# Altium footprint library PAL1.PcbLib: 132 footprints (part 7 of 9)
Each footprint in its own frame and in the unit in brackets; x right, y up, seen from the top. Pads: shape width x height; smd on the part's side, far side on the other; paste and mask are expansions set on the pad; w line width, h text height; cw(c..) or ccw(c..) is an arc to the next point about the centre after c.
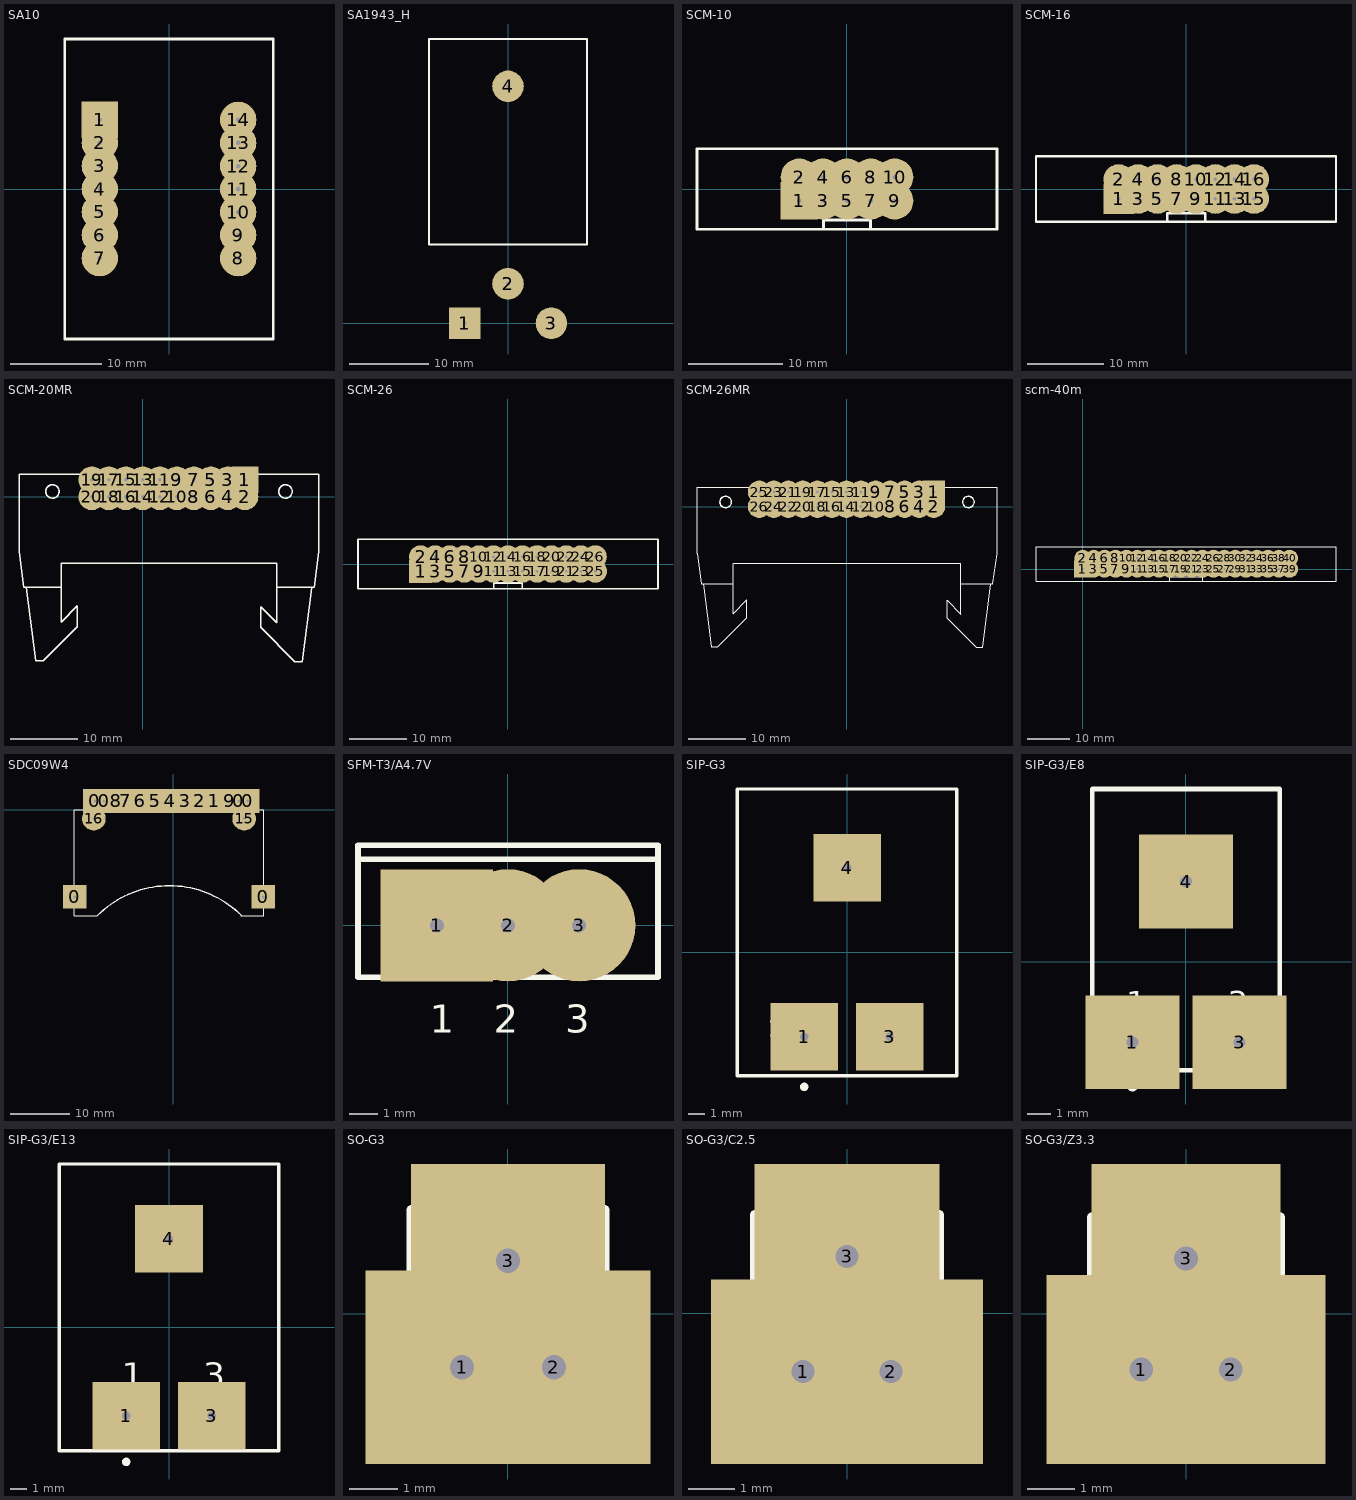
[diagram p6: the footprints below, top view; thin cyan lines are the x and y axes]

## SA10 [mm]
pads (14):
  rect 4x4 hole 0.5: 1(-7.62,7.62)
  round 4 hole 0.5: 2(-7.625,5.075) 3(-7.625,2.55) 4(-7.625,0) 5(-7.625,-2.525) 6(-7.625,-5.075) 7(-7.625,-7.625) 8(7.625,-7.625) 9(7.625,-5.075) 10(7.625,-2.55) 11(7.625,0) 12(7.625,2.525) 13(7.625,5.075) 14(7.625,7.625)
Top Overlay:
  lines w0.3: -11.5,-16.525 0,-16.525 11.5,-16.525 11.5,0 11.5,16.525 0,16.525 -11.5,16.525 -11.5,0 -11.5,-16.525

## SA1943_H [mm]
pads (4):
  rect 4x4 hole 0.5: 1(-5.5,0)
  round 4 hole 0.5: 2(0,5) 3(5.5,0) 4(0,30)
Top Overlay:
  lines w0.254: -10,10 0,10 10,10 10,36 -10,36 -10,10

## SCM-10 [mm]
pads (10):
  rect 4x4 hole 0.5: 1(-5.074,-1.261)
  round 4 hole 0.5: 2(-5.074,1.279) 3(-2.534,-1.261) 4(-2.534,1.279) 5(0.006,-1.261) 6(0.006,1.279) 7(2.546,-1.261) 8(2.546,1.279) 9(5.086,-1.261) 10(5.086,1.279)
Top Overlay:
  lines w0.3: -2.494,-4.291 -2.494,-3.291 2.506,-3.291 2.506,-4.291 ; -15.994,-4.291 -15.994,0.009 -15.994,4.309 16.006,4.309 16.006,-4.291 -15.994,-4.291

## SCM-16 [mm]
pads (16):
  rect 4x4 hole 0.5: 1(-8.889,-1.266)
  round 4 hole 0.5: 2(-8.889,1.274) 3(-6.349,-1.266) 4(-6.349,1.274) 5(-3.809,-1.266) 6(-3.809,1.274) 7(-1.269,-1.266) 8(-1.269,1.274) 9(1.271,-1.266) 10(1.271,1.274) 11(3.811,-1.266) 12(3.811,1.274) 13(6.351,-1.266) 14(6.351,1.274) 15(8.891,-1.266) 16(8.891,1.274)
Top Overlay:
  lines w0.3: -2.499,-4.169 -2.499,-3.169 2.501,-3.169 2.501,-4.169 ; -19.769,-4.296 19.686,-4.314 19.686,4.322 -19.769,4.304 -19.769,0.004 -19.769,-4.296

## SCM-20MR [mm]
pads (20):
  rect 4x4 hole 0.5: 1(15.228,2.538)
  round 4 hole 0.5: 2(15.228,-0.002) 3(12.688,2.538) 4(12.688,-0.002) 5(10.148,2.538) 6(10.148,-0.002) 7(7.608,2.538) 8(7.608,-0.002) 9(5.068,2.538) 10(5.068,-0.002) 11(2.528,2.538) 12(2.528,-0.002) 13(-0.012,2.538) 14(-0.012,-0.002) 15(-2.552,2.538) 16(-2.552,-0.002) 17(-5.092,2.538) 18(-5.092,-0.002) 19(-7.632,2.538) 20(-7.632,-0.002)
Top Overlay:
  circle w0.254: c-13.512,0.798 r1
  circle w0.254: c21.288,0.798 r1
  lines w0.2: -17.412,-13.502 -16.012,-24.502 -14.912,-24.502 -9.812,-19.402 -9.812,-16.302 -12.212,-18.702 -12.212,-13.502 -17.812,-13.502 -18.512,-8.202 -18.512,3.398 -0.012,3.398 26.288,3.398 26.288,-8.202 25.588,-13.502 19.988,-13.502 ; -12.212,-13.402 -12.212,-10.002 -12.112,-9.902 2.188,-9.902 19.988,-9.902 19.988,-13.602 19.988,-18.802 17.588,-16.402 17.588,-19.502 22.688,-24.602 23.788,-24.602 25.188,-13.602

## SCM-26 [mm]
pads (26):
  rect 4x4 hole 0.5: 1(-15.207,-1.212)
  round 4 hole 0.5: 2(-15.207,1.328) 3(-12.667,-1.212) 4(-12.667,1.328) 5(-10.127,-1.212) 6(-10.127,1.328) 7(-7.587,-1.212) 8(-7.587,1.328) 9(-5.047,-1.212) 10(-5.047,1.328) 11(-2.507,-1.212) 12(-2.507,1.328) 13(0.033,-1.212) 14(0.033,1.328) 15(2.573,-1.212) 16(2.573,1.328) 17(5.113,-1.212) 18(5.108,1.333) 19(7.653,-1.212) 20(7.653,1.328) 21(10.193,-1.212) 22(10.193,1.328) 23(12.733,-1.212) 24(12.733,1.328) 25(15.273,-1.212) 26(15.258,1.333)
Top Overlay:
  lines w0.3: -2.467,-4.242 -2.467,-3.242 2.533,-3.242 2.533,-4.242 ; -26.127,-4.242 -26.127,0.058 -26.127,4.358 26.193,4.358 26.193,-4.242 -26.127,-4.242

## SCM-26MR [mm]
pads (26):
  rect 4x4 hole 0.5: 1(15.228,2.538)
  round 4 hole 0.5: 2(15.228,-0.002) 3(12.688,2.538) 4(12.688,-0.002) 5(10.148,2.538) 6(10.148,-0.002) 7(7.608,2.538) 8(7.608,-0.002) 9(5.068,2.538) 10(5.068,-0.002) 11(2.528,2.538) 12(2.528,-0.002) 13(-0.012,2.538) 14(-0.012,-0.002) 15(-2.552,2.538) 16(-2.552,-0.002) 17(-5.092,2.538) 18(-5.092,-0.002) 19(-7.632,2.538) 20(-7.632,-0.002) 21(-10.172,2.538) 22(-10.172,-0.002) 23(-12.712,2.538) 24(-12.712,-0.002) 25(-15.252,2.538) 26(-15.252,-0.002)
Top Overlay:
  circle w0.254: c21.288,0.798 r1
  circle w0.254: c-21.137,0.798 r1
  lines w0.2: -26.137,3.398 -26.137,-8.202 -25.437,-13.502 -19.837,-13.502 -19.837,-18.702 -17.437,-16.302 -17.437,-19.402 -22.537,-24.502 -23.637,-24.502 -25.037,-13.502 ; -26.132,3.398 -0.012,3.398 26.288,3.398 26.288,-8.202 25.588,-13.502 19.988,-13.502 ; -19.837,-13.402 -19.837,-10.002 -19.737,-9.902 -12.112,-9.902 2.188,-9.902 19.988,-9.902 19.988,-13.602 19.988,-18.802 17.588,-16.402 17.588,-19.502 22.688,-24.602 23.788,-24.602 25.188,-13.602

## scm-40m [mm]
pads (40):
  rect 4x4 hole 0.5: 1(0.01,0.009)
  round 4 hole 0.5: 2(0.01,2.549) 3(2.55,0.009) 4(2.55,2.549) 5(5.09,0.009) 6(5.09,2.549) 7(7.63,0.009) 8(7.63,2.549) 9(10.17,0.009) 10(10.17,2.549) 11(12.71,0.009) 12(12.71,2.549) 13(15.25,0.009) 14(15.25,2.549) 15(17.79,0.009) 16(17.79,2.549) 17(20.33,0.009) 18(20.33,2.549) 19(22.87,0.009) 20(22.87,2.549) 21(25.41,0.009) 22(25.41,2.549) 23(27.95,0.009) 24(27.95,2.549) 25(30.49,0.009) 26(30.49,2.549) 27(33.03,0.009) 28(33.03,2.549) 29(35.57,0.009) 30(35.57,2.549) 31(38.11,0.009) 32(38.11,2.549) 33(40.65,0.009) 34(40.65,2.549) 35(43.19,0.009) 36(43.19,2.549) 37(45.73,0.009) 38(45.73,2.549) 39(48.27,0.009) 40(48.27,2.549)
Top Overlay:
  lines w0.2: 20.33,-2.785 20.33,-1.769 27.95,-1.769 27.95,-2.785 ; -10.912,-2.785 -10.912,5.215 59.088,5.215 59.088,-2.785 -10.912,-2.785

## SDC09W4 [mm]
pads (17):
  rect 4x4 on Top hole 0.5: 0(-16.55,-14.63) 0(-13.15,1.5) 0(-11.6,1.5) 0(11.06,1.5) 0(12.5,1.5) 0(15.15,-14.63) 1(6.88,1.5) 2(4.5,1.5) 3(2,1.5) 4(-0.5,1.5) 5(-3,1.5) 6(-5.5,1.5) 7(-7.99,1.5) 8(-9.61,1.5) 9(9.51,1.5)
  round 4 hole 0.5: 15(11.95,-1.5) 16(-13.35,-1.5)
Top Overlay:
  lines w0.2: -16.6,-13.4 -16.6,-0.05 -16.55,0 15.225,0 15.25,-0.025 15.25,-17.825 ; -16.6,-13.325 -16.6,-17.725 -16.65,-17.775 -12.725,-17.775 -12.7,-17.75 ; 11.35,-17.775 15.225,-17.775
  lines w0.254: -12.7,-17.75 cw(c-0.625,-29.85) 11.475,-17.775

## SFM-T3/A4.7V [mm]
pads (3):
  rect 4x4 hole 0.5: 1(-2.538,0.002)
  round 4 hole 0.5: 2(0.002,0.002) 3(2.542,0.002)
Top Overlay:
  lines w0.2: -5.348,2.352 5.352,2.352 ; -5.348,-1.848 -5.348,2.852 5.352,2.852 5.352,-1.848 -5.348,-1.848
  text "3" at 2.042,-3.823 h1
  text "1" at -2.788,-3.823 h1
  text "2" at -0.498,-3.823 h1

## SIP-G3 [mm]
pads (3):
  rect 4x4 on Top hole 0.5: 1(-2.563,-4.996) 3(2.517,-4.996) 4(-0.011,5.004)
Top Overlay:
  circle w0.25: c-2.563,-7.973 r0.125
  lines w0.2: -6.523,-7.323 -6.523,9.677 6.477,9.677 6.477,-7.323 -6.523,-7.323
  text "1" at -4.711,-4.996 h1

## SIP-G3/E8 [mm]
pads (3):
  rect 4x4 on Top hole 0.5: 1(-2.285,-3.431) 3(2.285,-3.431) 4(0,3.419)
Top Overlay:
  circle w0.25: c-2.285,-5.281 r0.125
  lines w0.2: -4,-4.631 4,-4.631 4,7.369 -4,7.369 -4,-4.631
  text "1" at -2.54,-2.256 h1
  text "3" at 1.788,-2.256 h1

## SIP-G3/E13 [mm]
pads (3):
  rect 4x4 on Top hole 0.5: 1(-2.551,-5.246) 3(2.529,-5.246) 4(-0.011,5.254)
Top Overlay:
  circle w0.25: c-2.551,-7.971 r0.125
  lines w0.2: -6.511,-7.321 6.489,-7.321 6.489,9.679 -6.511,9.679 -6.511,-7.321
  text "3" at 2.021,-3.571 h1.5
  text "1" at -2.801,-3.571 h1.5

## SO-G3 [mm]
pads (3):
  rect 4x4 on Top hole 0.5: 1(-0.948,-1.102) 2(0.952,-1.102) 3(0.002,1.098)
Top Overlay:
  circle w0.25: c-2.648,-1.102 r0.125
  lines w0.2: -1.998,-2.152 -1.998,2.148 2.002,2.148 2.002,-2.152 -1.998,-2.152

## SO-G3/C2.5 [mm]
pads (3):
  rect 4x4 on Top hole 0.5: 1(-0.958,-1.261) 2(0.942,-1.261) 3(-0.008,1.239)
Top Overlay:
  circle w0.25: c-2.658,-1.261 r0.125
  lines w0.2: -2.008,-2.161 1.992,-2.161 1.992,2.139 -2.008,2.139 -2.008,-2.161

## SO-G3/Z3.3 [mm]
pads (3):
  rect 4x4 on Top hole 0.5: 1(-0.954,-1.179) 2(0.946,-1.179) 3(-0.004,1.171)
Top Overlay:
  circle w0.25: c-2.654,-1.179 r0.125
  lines w0.2: -2.004,-2.054 1.996,-2.054 1.996,2.046 -2.004,2.046 -2.004,-2.054